# Altium footprint library IC.PCBLIB: 73 footprints (part 1 of 5)
Each footprint in its own frame and in the unit in brackets; x right, y up, seen from the top. Pads: shape width x height; smd on the part's side, far side on the other; paste and mask are expansions set on the pad; w line width, h text height; cw(c..) or ccw(c..) is an arc to the next point about the centre after c.
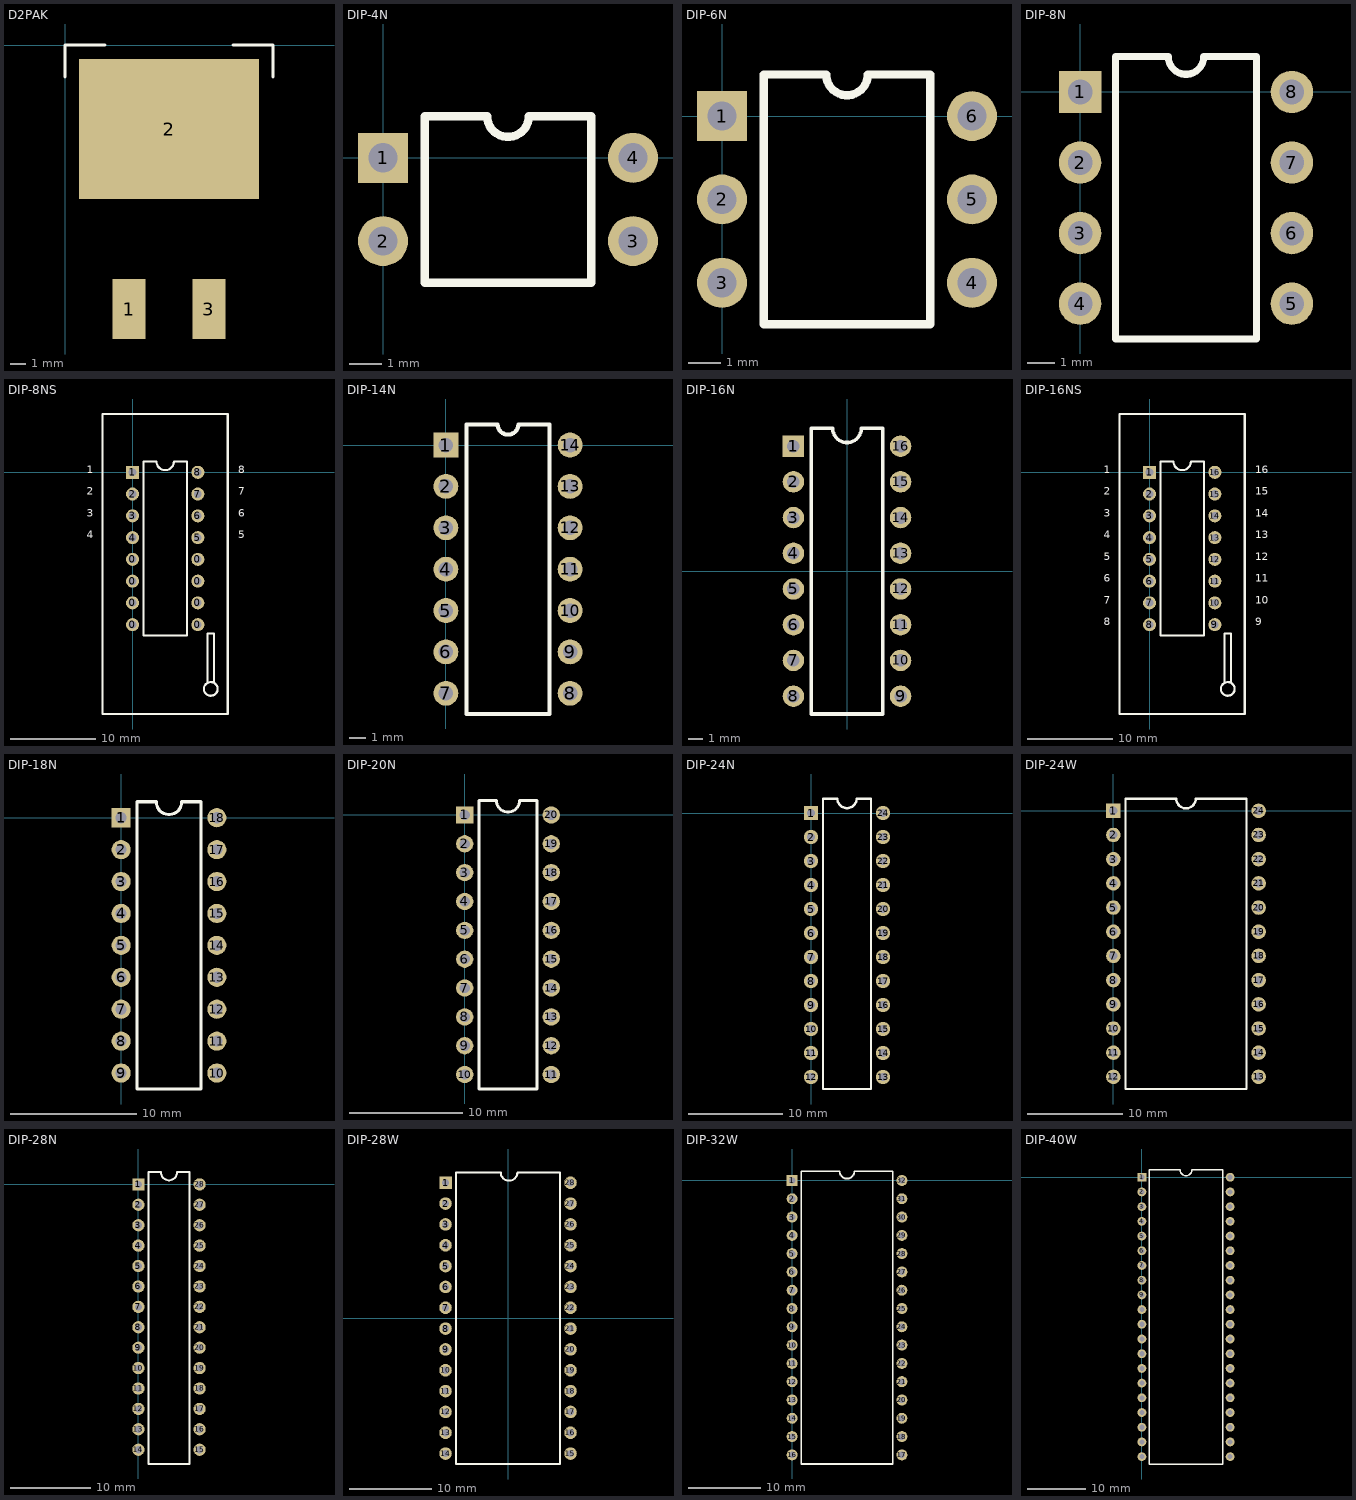
[diagram p0: the footprints below, top view; thin cyan lines are the x and y axes]

## D2PAK [mil]
pads (3):
  rect 82x150 smd: 1(160,-660) 3(360,-660)
  rect 450x350 smd: 2(260,-210)
TopOverlay:
  lines w8: 0,-80 0,0 100,0 ; 420,0 520,0 520,-80

## DIP-4N [mil]
pads (4):
  rect 60x60 hole 35: 1(0,0)
  round 60 hole 35: 2(0,-100) 3(300,-100) 4(300,0)
TopOverlay:
  lines w10: 50,-150 50,50 125,50 ccw(c150,50) 175,50 250,50 250,-150 50,-150

## DIP-6N [mil]
pads (6):
  rect 60x60 hole 35: 1(0,0)
  round 60 hole 35: 2(0,-100) 3(0,-200) 4(300,-200) 5(300,-100) 6(300,0)
TopOverlay:
  lines w10: 50,-250 250,-250 250,50 175,50 cw(c150,50) 125,50 50,50 50,-250

## DIP-8N [mil]
pads (8):
  rect 60x60 hole 35: 1(0,0)
  round 60 hole 35: 2(0,-100) 3(0,-200) 4(0,-300) 5(300,-300) 6(300,-200) 7(300,-100) 8(300,0)
TopOverlay:
  lines w10: 50,-350 250,-350 250,50 175,50 cw(c150,50) 125,50 50,50 50,-350

## DIP-8NS [mil]
pads (16):
  round 60 hole 35: 0(0,-700) 0(0,-600) 0(0,-500) 0(0,-400) 0(300,-700) 0(300,-600) 0(300,-500) 0(300,-400) 2(0,-100) 3(0,-200) 4(0,-300) 5(300,-300) 6(300,-200) 7(300,-100) 8(300,0)
  rect 60x60 hole 35: 1(0,0)
TopOverlay:
  circle w10: c359.38,-995 r31.5
  lines w10: 345,-965 345,-740 373.77,-740 373.77,-965 ; -137.4,-1110.24 -137.4,267.72 437.4,267.72 437.4,-1110.24 -137.4,-1110.24 ; 50,-750 50,50 110,50 ccw(c150,50) 190,50 250,50 250,-750 50,-750
  text "5" at 485,-315 h60
  text "6" at 485,-215 h60
  text "7" at 485,-115 h60
  text "4" at -210,-315 h60
  text "3" at -210,-215 h60
  text "2" at -210,-115 h60
  text "1" at -210,-15 h60
  text "8" at 485,-15 h60

## DIP-14N [mil]
pads (14):
  rect 60x60 hole 35: 1(0,0)
  round 60 hole 35: 2(0,-100) 3(0,-200) 4(0,-300) 5(0,-400) 6(0,-500) 7(0,-600) 8(300,-600) 9(300,-500) 10(300,-400) 11(300,-300) 12(300,-200) 13(300,-100) 14(300,0)
TopOverlay:
  lines w10: 50,-650 250,-650 250,50 175,50 cw(c150,50) 125,50 50,50 50,-650

## DIP-16N [mil]
pads (16):
  rect 60x60 hole 35: 1(-150,350)
  round 60 hole 35: 2(-150,250) 3(-150,150) 4(-150,50) 5(-150,-50) 6(-150,-150) 7(-150,-250) 8(-150,-350) 9(150,-350) 10(150,-250) 11(150,-150) 12(150,-50) 13(150,50) 14(150,150) 15(150,250) 16(150,350)
TopOverlay:
  lines w10: -100,-400 100,-400 100,400 40,400 cw(c0,400) -40,400 -100,400 -100,-400

## DIP-16NS [mil]
pads (16):
  rect 60x60 hole 35: 1(0,0)
  round 60 hole 35: 2(0,-100) 3(0,-200) 4(0,-300) 5(0,-400) 6(0,-500) 7(0,-600) 8(0,-700) 9(300,-700) 10(300,-600) 11(300,-500) 12(300,-400) 13(300,-300) 14(300,-200) 15(300,-100) 16(300,0)
TopOverlay:
  circle w10: c359.38,-995 r31.5
  lines w10: 345,-965 345,-740 373.77,-740 373.77,-965 ; -137.4,-1110.24 -137.4,267.72 437.4,267.72 437.4,-1110.24 -137.4,-1110.24 ; 50,-750 50,50 110,50 ccw(c150,50) 190,50 250,50 250,-750 50,-750
  text "9" at 485,-715 h60
  text "10" at 485,-615 h60
  text "11" at 485,-515 h60
  text "12" at 485,-415 h60
  text "13" at 485,-315 h60
  text "14" at 485,-215 h60
  text "15" at 485,-115 h60
  text "7" at -210,-615 h60
  text "6" at -210,-515 h60
  text "5" at -210,-415 h60
  text "4" at -210,-315 h60
  text "3" at -210,-215 h60
  text "2" at -210,-115 h60
  text "1" at -210,-15 h60
  text "8" at -210,-715 h60
  text "16" at 485,-15 h60

## DIP-18N [mil]
pads (18):
  rect 60x60 hole 35: 1(0,0)
  round 60 hole 35: 2(0,-100) 3(0,-200) 4(0,-300) 5(0,-400) 6(0,-500) 7(0,-600) 8(0,-700) 9(0,-800) 10(300,-800) 11(300,-700) 12(300,-600) 13(300,-500) 14(300,-400) 15(300,-300) 16(300,-200) 17(300,-100) 18(300,0)
TopOverlay:
  lines w10: 50,-850 50,50 110,50 ccw(c150,50) 190,50 250,50 250,-850 50,-850

## DIP-20N [mil]
pads (20):
  rect 60x60 hole 35: 1(0,0)
  round 60 hole 35: 2(0,-100) 3(0,-200) 4(0,-300) 5(0,-400) 6(0,-500) 7(0,-600) 8(0,-700) 9(0,-800) 10(0,-900) 11(300,-900) 12(300,-800) 13(300,-700) 14(300,-600) 15(300,-500) 16(300,-400) 17(300,-300) 18(300,-200) 19(300,-100) 20(300,0)
TopOverlay:
  lines w10: 50,-950 250,-950 250,50 190,50 cw(c150,50) 110,50 50,50 50,-950

## DIP-24N [mil]
pads (24):
  rect 60x60 hole 35: 1(0,0)
  round 60 hole 35: 2(0,-100) 3(0,-200) 4(0,-300) 5(0,-400) 6(0,-500) 7(0,-600) 8(0,-700) 9(0,-800) 10(0,-900) 11(0,-1000) 12(0,-1100) 13(300,-1100) 14(300,-1000) 15(300,-900) 16(300,-800) 17(300,-700) 18(300,-600) 19(300,-500) 20(300,-400) 21(300,-300) 22(300,-200) 23(300,-100) 24(300,0)
TopOverlay:
  lines w10: 50,-1150 250,-1150 250,60 190,60 cw(c150,60) 110,60 50,60 50,-1150

## DIP-24W [mil]
pads (24):
  rect 60x60 hole 35: 1(0,0)
  round 60 hole 35: 2(0,-100) 3(0,-200) 4(0,-300) 5(0,-400) 6(0,-500) 7(0,-600) 8(0,-700) 9(0,-800) 10(0,-900) 11(0,-1000) 12(0,-1100) 13(600,-1100) 14(600,-1000) 15(600,-900) 16(600,-800) 17(600,-700) 18(600,-600) 19(600,-500) 20(600,-400) 21(600,-300) 22(600,-200) 23(600,-100) 24(600,0)
TopOverlay:
  lines w10: 50,-1150 50,50 260,50 ccw(c300,50) 340,50 550,50 550,-1150 50,-1150

## DIP-28N [mil]
pads (28):
  rect 60x60 hole 35: 1(0,0)
  round 60 hole 35: 2(0,-100) 3(0,-200) 4(0,-300) 5(0,-400) 6(0,-500) 7(0,-600) 8(0,-700) 9(0,-800) 10(0,-900) 11(0,-1000) 12(0,-1100) 13(0,-1200) 14(0,-1300) 15(300,-1300) 16(300,-1200) 17(300,-1100) 18(300,-1000) 19(300,-900) 20(300,-800) 21(300,-700) 22(300,-600) 23(300,-500) 24(300,-400) 25(300,-300) 26(300,-200) 27(300,-100) 28(300,0)
TopOverlay:
  lines w10: 50,-1370 250,-1370 250,60 190,60 cw(c150,60) 110,60 50,60 50,-1370

## DIP-28W [mil]
pads (28):
  rect 60x60 hole 35: 1(-300,650)
  round 60 hole 35: 2(-300,550) 3(-300,450) 4(-300,350) 5(-300,250) 6(-300,150) 7(-300,50) 8(-300,-50) 9(-300,-150) 10(-300,-250) 11(-300,-350) 12(-300,-450) 13(-300,-550) 14(-300,-650) 15(300,-650) 16(300,-550) 17(300,-450) 18(300,-350) 19(300,-250) 20(300,-150) 21(300,-50) 22(300,50) 23(300,150) 24(300,250) 25(300,350) 26(300,450) 27(300,550) 28(300,650)
TopOverlay:
  lines w10: -250,-700 -250,700 -35,700 ccw(c5,700) 45,700 250,700 250,-700 -250,-700

## DIP-32W [mil]
pads (32):
  rect 60x60 hole 35: 1(0,0)
  round 60 hole 35: 2(0,-100) 3(0,-200) 4(0,-300) 5(0,-400) 6(0,-500) 7(0,-600) 8(0,-700) 9(0,-800) 10(0,-900) 11(0,-1000) 12(0,-1100) 13(0,-1200) 14(0,-1300) 15(0,-1400) 16(0,-1500) 17(600,-1500) 18(600,-1400) 19(600,-1300) 20(600,-1200) 21(600,-1100) 22(600,-1000) 23(600,-900) 24(600,-800) 25(600,-700) 26(600,-600) 27(600,-500) 28(600,-400) 29(600,-300) 30(600,-200) 31(600,-100) 32(600,0)
TopOverlay:
  lines w10: 50,-1550 50,50 260,50 ccw(c300,50) 340,50 550,50 550,-1550 50,-1550

## DIP-40W [mil]
pads (40):
  rect 60x60 hole 35: 1(0,0)
  round 60 hole 35: 2(0,-100) 3(0,-200) 4(0,-300) 5(0,-400) 6(0,-500) 7(0,-600) 8(0,-700) 9(0,-800) 10(0,-900) 11(0,-1000) 12(0,-1100) 13(0,-1200) 14(0,-1300) 15(0,-1400) 16(0,-1500) 17(0,-1600) 18(0,-1700) 19(0,-1800) 20(0,-1900) 21(600,-1900) 22(600,-1800) 23(600,-1700) 24(600,-1600) 25(600,-1500) 26(600,-1400) 27(600,-1300) 28(600,-1200) 29(600,-1100) 30(600,-1000) 31(600,-900) 32(600,-800) 33(600,-700) 34(600,-600) 35(600,-500) 36(600,-400) 37(600,-300) 38(600,-200) 39(600,-100) 40(600,0)
TopOverlay:
  lines w10: 50,-1950 50,50 260,50 ccw(c300,50) 340,50 550,50 550,-1950 50,-1950